# EAGLE library part IC_MAX1896 (library dp_devices)
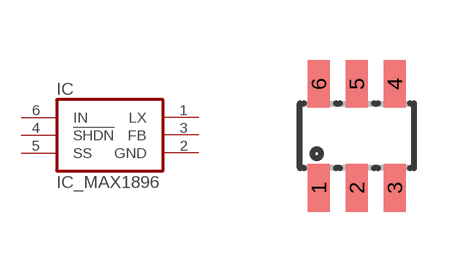
[diagram p47: symbol with the pads of SOT-23-6; footprint SOT-23-6]

Designator prefix IC

## IC_MAX1896  [SOT-23-6]
1  LX
2  GND
3  FB
4  !SHDN
5  SS
6  IN

## Footprint SOT-23-6 (pad centres in mm)
smd 0.55 x 1.2: 1 -0.95,-1.3; 2 0,-1.3; 3 0.95,-1.3; 4 0.95,1.3; 5 0,1.3; 6 -0.95,1.3